# Altium footprint library PcbLib1.PcbLib: 51 footprints (part 2 of 4)
Each footprint in its own frame and in the unit in brackets; x right, y up, seen from the top. Pads: shape width x height; smd on the part's side, far side on the other; paste and mask are expansions set on the pad; w line width, h text height; cw(c..) or ccw(c..) is an arc to the next point about the centre after c.
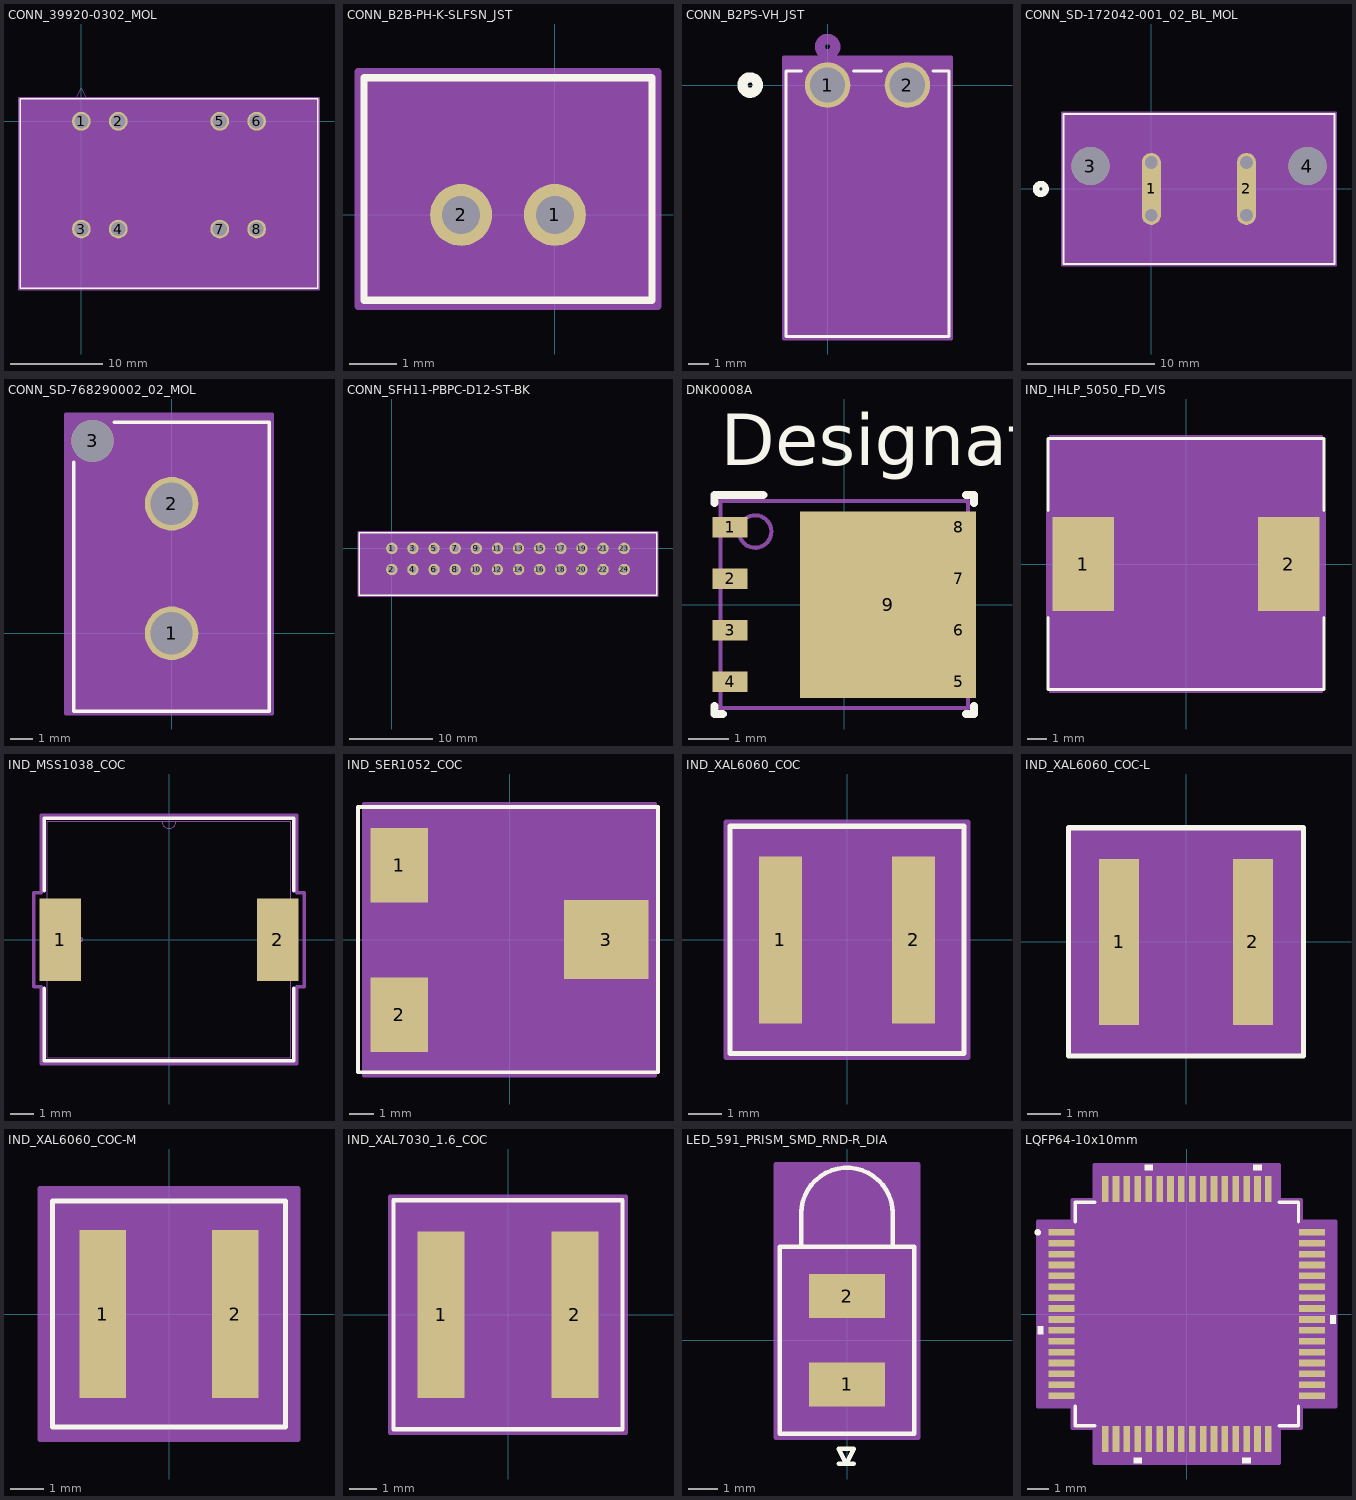
[diagram p1: the footprints below, top view; thin cyan lines are the x and y axes]

## CONN_39920-0302_MOL [mil]
pads (8):
  round 80 / inner round 60 / far side round 80 hole 60 paste-99999 mask+0: 1(0,0) 2(157.48,0) 3(0,-459.84) 4(157.48,-459.84) 5(590.55,0) 6(748.03,0) 7(590.55,-459.84) 8(748.03,-459.84)
Top Overlay:
  lines w6: -260.98,-713.45 1009.02,-713.45 1009.02,95.55 -260.98,95.55 -260.98,-713.45
Mechanical 13:
  lines w1: -25,90.55 0,140.55 25,90.55 ; -255.98,-708.45 1004.02,-708.45 1004.02,90.55 -255.98,90.55 -255.98,-708.45
Mechanical 15:
  region: 1014.02,100.55 1014.02,-718.45 -265.98,-718.45 -265.98,100.55
  lines w6: -265.98,-718.45 -265.98,100.55 1014.02,100.55 1014.02,-718.45 -265.98,-718.45

## CONN_B2B-PH-K-SLFSN_JST [mil]
pads (2):
  round 52 / inner round 60 / far side round 52 hole 32 paste-99999 mask+0: 1(0,0) 2(-78.74,0)
Top Overlay:
  lines w6: -160.37,-71.76 -160.37,115.24 81.63,115.24 81.63,-71.76 -160.37,-71.76
Mechanical 13:
  lines w1: -155.37,-66.76 -155.37,110.24 76.63,110.24 76.63,-66.76 -155.37,-66.76
Mechanical 15:
  region: 86.63,120.24 -165.37,120.24 -165.37,-76.76 86.63,-76.76
  lines w6: -165.37,-76.76 86.63,-76.76 86.63,120.24 -165.37,120.24 -165.37,-76.76

## CONN_B2PS-VH_JST [mil]
pads (2):
  round 89 / inner round 60 / far side round 89 hole 69 paste-99999 mask+0: 1(0,0) 2(155.91,0)
Top Overlay:
  circle w20: c-151.55,0 r15
  lines w6: -50.64,27.44 -81.55,27.44 -81.55,-491.56 237.45,-491.56 237.45,27.44 206.55,27.44 ; 50.64,27.44 105.26,27.44
Bottom Overlay:
  circle w20: c-151.55,0 r15
Mechanical 13:
  circle w20: c0,75 r15
  lines w1: -76.55,-486.56 -76.55,22.44 232.45,22.44 232.45,-486.56 -76.55,-486.56
Mechanical 15:
  region: 242.45,54.5 -86.55,54.5 -86.55,-496.56 242.45,-496.56
  lines w6: -86.55,-496.56 242.45,-496.56 242.45,54.5 -86.55,54.5 -86.55,-496.56

## CONN_SD-172042-001_02_BL_MOL [mil]
pads (8):
  oval 59x223 smd paste+0 mask+0: 1(0,0) 2(294.88,0)
  round 118 / inner round 60 / far side round 118 hole 118 unplated paste-99999 mask-59: 3(-188.98,71.06) 4(483.86,71.06)
  round 39 / inner round 60 / far side round 39 hole 39 unplated paste-99999 mask-19.5: S_1_H1(0,82) S_1_H2(0,-82) S_2_H1(294.88,82) S_2_H2(294.88,-82)
Top Overlay:
  circle w20: c-342.56,0 r15
  lines w6: -272.56,-232.23 -272.56,231.77 567.44,231.77 567.44,-232.23 -272.56,-232.23
Bottom Overlay:
  circle w20: c-342.56,0 r15
Mechanical 13:
  circle w20: c0,75 r15
  lines w1: -267.56,-227.23 -267.56,226.77 562.44,226.77 562.44,-227.23 -267.56,-227.23
Mechanical 15:
  region: 572.44,236.77 -277.56,236.77 -277.56,-237.23 572.44,-237.23
  lines w6: -277.56,-237.23 572.44,-237.23 572.44,236.77 -277.56,236.77 -277.56,-237.23
Multi-Layer:
  lines w39: 0,-82 0,82 ; 294.88,-82 294.88,82

## CONN_SD-768290002_02_MOL [mil]
pads (3):
  round 93 / inner round 60 / far side round 93 hole 73 paste-99999 mask+0: 1(0,0) 2(0,224.41)
  round 73 / inner round 60 / far side round 73 hole 73 unplated paste-99999 mask-36.5: 3(-137.01,333.46)
Top Overlay:
  lines w6: -169.5,295.99 -169.5,-134.98 169.5,-134.98 169.5,366.02 -99.59,366.02
Mechanical 13:
  circle w20: c0,-75 r15
  lines w1: -164.5,-129.98 -164.5,361.02 164.5,361.02 164.5,-129.98 -164.5,-129.98
Mechanical 15:
  region: 174.5,379.96 -183.51,379.96 -183.51,-139.98 174.5,-139.98
  lines w6: -183.51,-139.98 174.5,-139.98 174.5,379.96 -183.51,379.96 -183.51,-139.98

## CONN_SFH11-PBPC-D12-ST-BK [mil]
pads (24):
  round 54 / inner round 60 / far side round 54 hole 34 paste-99999 mask+0: 1(0,0) 2(0,-100) 3(100,0) 4(100,-100) 5(200,0) 6(200,-100) 7(300,0) 8(300,-100) 9(400,0) 10(400,-100) 11(500,0) 12(500,-100) 13(600,0) 14(600,-100) 15(700,0) 16(700,-100) 17(800,0) 18(800,-100) 19(900,0) 20(900,-100) 21(1000,0) 22(1000,-100) 23(1100,0) 24(1100,-100)
Top Overlay:
  lines w6: -155,-221 1255,-221 1255,73 -155,73 -155,-221
Mechanical 13:
  lines w1: -150,-216 1250,-216 1250,68 -150,68 -150,-216
Mechanical 15:
  region: 1260,78 -160,78 -160,-226 1260,-226
  lines w6: -160,-226 -160,78 1260,78 1260,-226 -160,-226

## DNK0008A [mm]
pads (9):
  rect 0.86x0.51 smd paste-0.05 mask-0.051: 1(-2.82,1.905) 2(-2.82,0.635) 3(-2.82,-0.635) 4(-2.82,-1.905) 5(2.82,-1.905) 6(2.82,-0.635) 7(2.82,0.635) 8(2.82,1.905)
  rect 4.34x4.6 smd paste-2.287 mask-0.051: 9(1.08,0)
Top Overlay:
  lines w0.2: -3.2,-2.5 -3.2,-2.7 -3,-2.7 ; -3.2,2.5 -3.2,2.7 -2,2.7 ; 3,-2.7 3.2,-2.7 3.2,-2.5 ; 3,2.7 3.2,2.7 3.2,2.5
  text "Designator109" at -3.048,3.429 h1.27
Top Paste:
  drawing of 6 lines, arcs and shapes, not listed
Mechanical 13:
  circle w0.1: c-2.2,1.8 r0.4
  lines w0.1: -3.05,-2.55 3.05,-2.55 3.05,2.55 -3.05,2.55 -3.05,-2.55

## IND_IHLP_5050_FD_VIS [mil]
pads (2):
  rect 127x195 smd paste+0 mask+0: 1(-212.5,0) 2(212.5,0)
Top Overlay:
  lines w6: -285,-110.6 -285,-259 285,-259 285,-110.6 ; -285,110.6 -285,259 285,259 285,110.6
Mechanical 13:
  circle w0: c-250,0 r3
  lines w1: -270,-254 -270,254 270,254 270,-254 -270,-254
Mechanical 15:
  region: -280,-107.5 -286,-107.5 -286,107.5 -280,107.5 -280,264 280,264 280,107.5 286,107.5 286,-107.5 280,-107.5 280,-264 -280,-264
  lines w6: -286,-107.5 -280,-107.5 -280,-264 280,-264 280,-107.5 286,-107.5 286,107.5 280,107.5 280,264 -280,264 -280,107.5 -286,107.5 -286,-107.5
3D body "IND_IHLP_5050_FD_VIS.step": height 257.99, standoff 0, extent -270,-254.02 270,254.02

## IND_MSS1038_COC [mil]
pads (2):
  rect 70x140 smd paste-35 mask+0: 1(-185,0) 2(185,0)
Top Overlay:
  lines w6: -212,-83.1 -212,-206 212,-206 212,-83.1 ; -212,83.1 -212,206 212,206 212,83.1
Mechanical 13:
  circle w0: c-150,0 r3
  lines w0: -12,201 ccw(c0,201) 12,201
  lines w1: -207,-201 -207,201 207,201 207,-201 -207,-201
Mechanical 15:
  lines w6: -230,-80 -217,-80 -217,-211 217,-211 217,-80 230,-80 230,80 217,80 217,211 -217,211 -217,80 -230,80 -230,-80

## IND_SER1052_COC [mil]
pads (3):
  rect 91x118 smd paste-45.5 mask+0: 1(-175,118.11) 2(-175,-119.09)
  rect 134x125 smd paste-62.5 mask+0: 3(152.85,0)
Top Layer:
  region: 0,-62.5
  region: 0,62.5
Top Overlay:
  lines w6: -240,-210 -240,210 235,210 235,-210 -240,-210
Top Paste:
  region: 63.06,-3.94 3.94,-3.94 3.94,-58.56 63.06,-58.56
  region: 63.06,58.56 3.94,58.56 3.94,3.94 63.06,3.94
  region: -3.94,-3.94 -63.06,-3.94 -63.06,-58.56 -3.94,-58.56
  region: -3.94,58.56 -63.06,58.56 -63.06,3.94 -3.94,3.94
Top Solder:
  region: 0,-62.5
  region: 0,62.5
Mechanical 13:
  circle w0: c-107.5,119.09 r3
  lines w0: -12,205 ccw(c0,205) 12,205
  lines w1: -220.5,-205 -220.5,205 220.5,205 220.5,-205 -220.5,-205
Mechanical 15:
  region: -230.5,-188.09 -230.5,188.09 -230.5,215 230.5,215 230.5,188.09 230.5,-188.09 230.5,-215 -230.5,-215
  lines w6: -230.5,-215 230.5,-215 230.5,-188.09 230.5,188.09 230.5,215 -230.5,215 -230.5,188.09 -230.5,-188.09 -230.5,-215

## IND_XAL6060_COC [mil]
pads (2):
  rect 51x197 smd paste+0 mask+0: 1(-78.5,0) 2(78.5,0)
Top Overlay:
  lines w6: -138,-134 138,-134 138,134 -138,134 -138,-134
Mechanical 13:
  circle w0: c-53,0 r3
  lines w0: -12,129 ccw(c0,129) 12,129
  lines w1: -133,-129 133,-129 133,129 -133,129 -133,-129
Mechanical 15:
  region: -143,-108.5 -143,108.5 -143,139 143,139 143,108.5 143,-108.5 143,-139 -143,-139
  lines w6: -143,-139 -143,-108.5 -143,108.5 -143,139 143,139 143,108.5 143,-108.5 143,-139 -143,-139
3D body "IND_XAL6060_COC.step": height 240.12, standoff 0, extent -132.99,-129.02 132.99,129.02

## IND_XAL6060_COC-L [mil]
pads (2):
  rect 47x195 smd paste+0 mask+0: 1(-78.5,0) 2(78.5,0)
Top Overlay:
  lines w6: -138,-134 -138,134 138,134 138,-134 -138,-134
Mechanical 13:
  circle w0: c-55,0 r3
  lines w0: -12,129 ccw(c0,129) 12,129
  lines w1: -133,-129 -133,129 133,129 133,-129 -133,-129
Mechanical 15:
  region: -137,-101.5 -137,101.5 -137,133 137,133 137,101.5 137,-101.5 137,-133 -137,-133
  lines w6: -137,-133 137,-133 137,-101.5 137,101.5 137,133 -137,133 -137,101.5 -137,-101.5 -137,-133
3D body "IND_XAL6060_COC.step": height 240.12, standoff 0, extent -132.99,-129.02 132.99,129.02

## IND_XAL6060_COC-M [mil]
pads (2):
  rect 55x199 smd paste+0 mask+0: 1(-78.5,0) 2(78.5,0)
Top Overlay:
  lines w6: -138,-134 138,-134 138,134 -138,134 -138,-134
Mechanical 13:
  circle w0: c-51,0 r3
  lines w0: -12,129 ccw(c0,129) 12,129
  lines w1: -133,-129 133,-129 133,129 -133,129 -133,-129
Mechanical 15:
  region: -153,-119.5 -153,119.5 -153,149 153,149 153,119.5 153,-119.5 153,-149 -153,-149
  lines w6: -153,-149 -153,-119.5 -153,119.5 -153,149 153,149 153,119.5 153,-119.5 153,-149 -153,-149
3D body "IND_XAL6060_COC.step": height 240.12, standoff 0, extent -132.99,-129.02 132.99,129.02

## IND_XAL7030_1.6_COC [mil]
pads (2):
  rect 67x236 smd paste+0 mask+0: 1(-95,0) 2(95,0)
Top Overlay:
  lines w6: -162.5,-162.5 -162.5,162.5 162.5,162.5 162.5,-162.5 -162.5,-162.5
Mechanical 13:
  circle w0: c-61.5,0 r3
  lines w0: -12,157.5 ccw(c0,157.5) 12,157.5
  lines w1: -157.5,-157.5 -157.5,157.5 157.5,157.5 157.5,-157.5 -157.5,-157.5
Mechanical 15:
  region: -167.5,-128 -167.5,128 -167.5,167.5 167.5,167.5 167.5,128 167.5,-128 167.5,-167.5 -167.5,-167.5
  lines w6: -167.5,-167.5 167.5,-167.5 167.5,-128 167.5,128 167.5,167.5 -167.5,167.5 -167.5,128 -167.5,-128 -167.5,-167.5
3D body "IND_XAL7030_16_COC.step": height 122.09, standoff 0, extent -157.48,-157.48 157.48,157.48

## LED_591_PRISM_SMD_RND-R_DIA [mil]
pads (2):
  rect 102x59 smd paste+0 mask+0: 1(0,-59) 2(0,59)
Top Overlay:
  lines w6: -61,125 -61,174 ; -61,169 cw(c0,169) 61,169 ; -11,-165 9,-165 ; 61,125 61,174 ; -90,-125 90,-125 90,125 -90,125 -90,-125 ; -11,-145 9,-145 -1,-165 -11,-145
Mechanical 13:
  lines w0: -56,169 cw(c0,169) 56,169
  lines w1: -56,120 -56,169 ; -11,-165 9,-165 ; 56,120 56,169 ; -85,-120 85,-120 85,120 -85,120 -85,-120 ; -11,-145 9,-145 -1,-165 -11,-145
Mechanical 15:
  region: 95,235 -95,235 -95,-130 95,-130
  lines w6: -95,-130 -95,235 95,235 95,-130 -95,-130

## LQFP64-10x10mm [mil]
pads (64):
  rect 47x12 smd paste+0 mask+0: 1(-226.38,147.64) 2(-226.38,127.95) 3(-226.38,108.27) 4(-226.38,88.58) 5(-226.38,68.9) 6(-226.38,49.21) 7(-226.38,29.53) 8(-226.38,9.84) 9(-226.38,-9.84) 10(-226.38,-29.53) 11(-226.38,-49.21) 12(-226.38,-68.9) 13(-226.38,-88.58) 14(-226.38,-108.27) 15(-226.38,-127.95) 16(-226.38,-147.64) 33(226.38,-147.64) 34(226.38,-127.95) 35(226.38,-108.27) 36(226.38,-88.58) 37(226.38,-68.9) 38(226.38,-49.21) 39(226.38,-29.53) 40(226.38,-9.84) 41(226.38,9.84) 42(226.38,29.53) 43(226.38,49.21) 44(226.38,68.9) 45(226.38,88.58) 46(226.38,108.27) 47(226.38,127.95) 48(226.38,147.64)
  rect 12x47 smd paste+0 mask+0: 17(-147.64,-226.38) 18(-127.95,-226.38) 19(-108.27,-226.38) 20(-88.58,-226.38) 21(-68.9,-226.38) 22(-49.21,-226.38) 23(-29.53,-226.38) 24(-9.84,-226.38) 25(9.84,-226.38) 26(29.53,-226.38) 27(49.21,-226.38) 28(68.9,-226.38) 29(88.58,-226.38) 30(108.27,-226.38) 31(127.95,-226.38) 32(147.64,-226.38) 49(147.64,226.38) 50(127.95,226.38) 51(108.27,226.38) 52(88.58,226.38) 53(68.9,226.38) 54(49.21,226.38) 55(29.53,226.38) 56(9.84,226.38) 57(-9.84,226.38) 58(-29.53,226.38) 59(-49.21,226.38) 60(-68.9,226.38) 61(-88.58,226.38) 62(-108.27,226.38) 63(-127.95,226.38) 64(-147.64,226.38)
Top Overlay:
  circle w6: c-269.72,147.64 r3
  region: -61.4,259.88 -76.4,259.88 -76.4,269.88 -61.4,269.88
  region: 135.45,259.88 120.45,259.88 120.45,269.88 135.45,269.88
  region: 259.88,-2.34 269.88,-2.34 269.88,-17.34 259.88,-17.34
  region: 115.77,-259.88 100.77,-259.88 100.77,-269.88 115.77,-269.88
  region: -81.08,-259.88 -96.08,-259.88 -96.08,-269.88 -81.08,-269.88
  region: -259.88,-22.03 -269.88,-22.03 -269.88,-37.03 -259.88,-37.03
  lines w6: -202,-166.71 -202,-202 -166.71,-202 ; -202,166.71 -202,202 -166.71,202 ; 166.71,-202 202,-202 202,-166.71 ; 166.71,202 202,202 202,166.71
Mechanical 13:
  circle w0: c-177.88,147.64 r3
  lines w1: -197,147 -147,197 ; -197,-197 -197,197 197,197 197,-197 -197,-197
Mechanical 15:
  region: -167.64,-207 -207,-207 -207,-167.64 -269.88,-167.64 -269.88,167.64 -207,167.64 -207,207 -167.64,207 -167.64,269.88 167.64,269.88 167.64,207 207,207 207,167.64 269.88,167.64 269.88,-167.64 207,-167.64 207,-207 167.64,-207 167.64,-269.88 -167.64,-269.88
  lines w6: -269.88,-167.64 -269.88,167.64 -207,167.64 -207,207 -167.64,207 -167.64,269.88 167.64,269.88 167.64,207 207,207 207,167.64 269.88,167.64 269.88,-167.64 207,-167.64 207,-207 167.64,-207 167.64,-269.88 -167.64,-269.88 -167.64,-207 -207,-207 -207,-167.64 -269.88,-167.64
3D body "LQFP64-10x10mm.step": height 63.11, standoff 0, extent -236.1,-236.1 236.1,236.1